# EAGLE library part CM200TU-12F (library charleses_parts_bin)
IGBT 600V 9000A 3PH BRIDGE 6 ELEMENTS IN A PACK
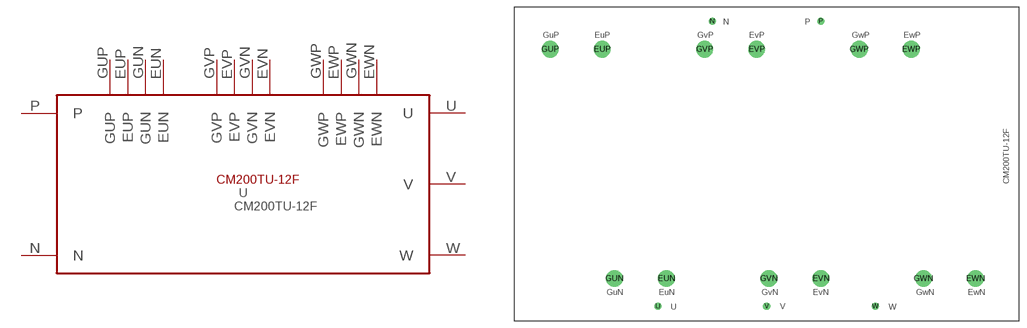
[diagram p3: symbol with the pads of CM200TU-12F; footprint CM200TU-12F]

Designator prefix -

## CM200TU-12F  [CM200TU-12F]
EUN  EUN  pas
EUP  EUP  pas
EVN  EVN  pas
EVP  EVP  pas
EWN  EWN  pas
EWP  EWP  pas
GUN  GUN  pas
GUP  GUP  pas
GVN  GVN  pas
GVP  GVP  pas
GWN  GWN  pas
GWP  GWP  pas
N  N  pas
P  P  pas
U  U  pas
V  V  pas
W  W  pas

## Footprint CM200TU-12F (pad centres in mm)
drill 2.54 pad 2.54 round: EUN 32.3,8.9; EUP 18.7,57.4; EVN 65,8.9; EVP 51.4,57.4; EWN 97.7,8.9; EWP 84.1,57.4; GUN 21.3,8.9; GUP 7.7,57.4; GVN 54,8.9; GVP 40.4,57.4; GWN 86.7,8.9; GWP 73.1,57.4
drill 1 round: N 42,63.3; P 65,63.3; U 30.5,3; V 53.5,3; W 76.5,3